# Altium integrated library Maxim Digital Potentiometers.IntLib: 1045 symbols (part 27 of 42)
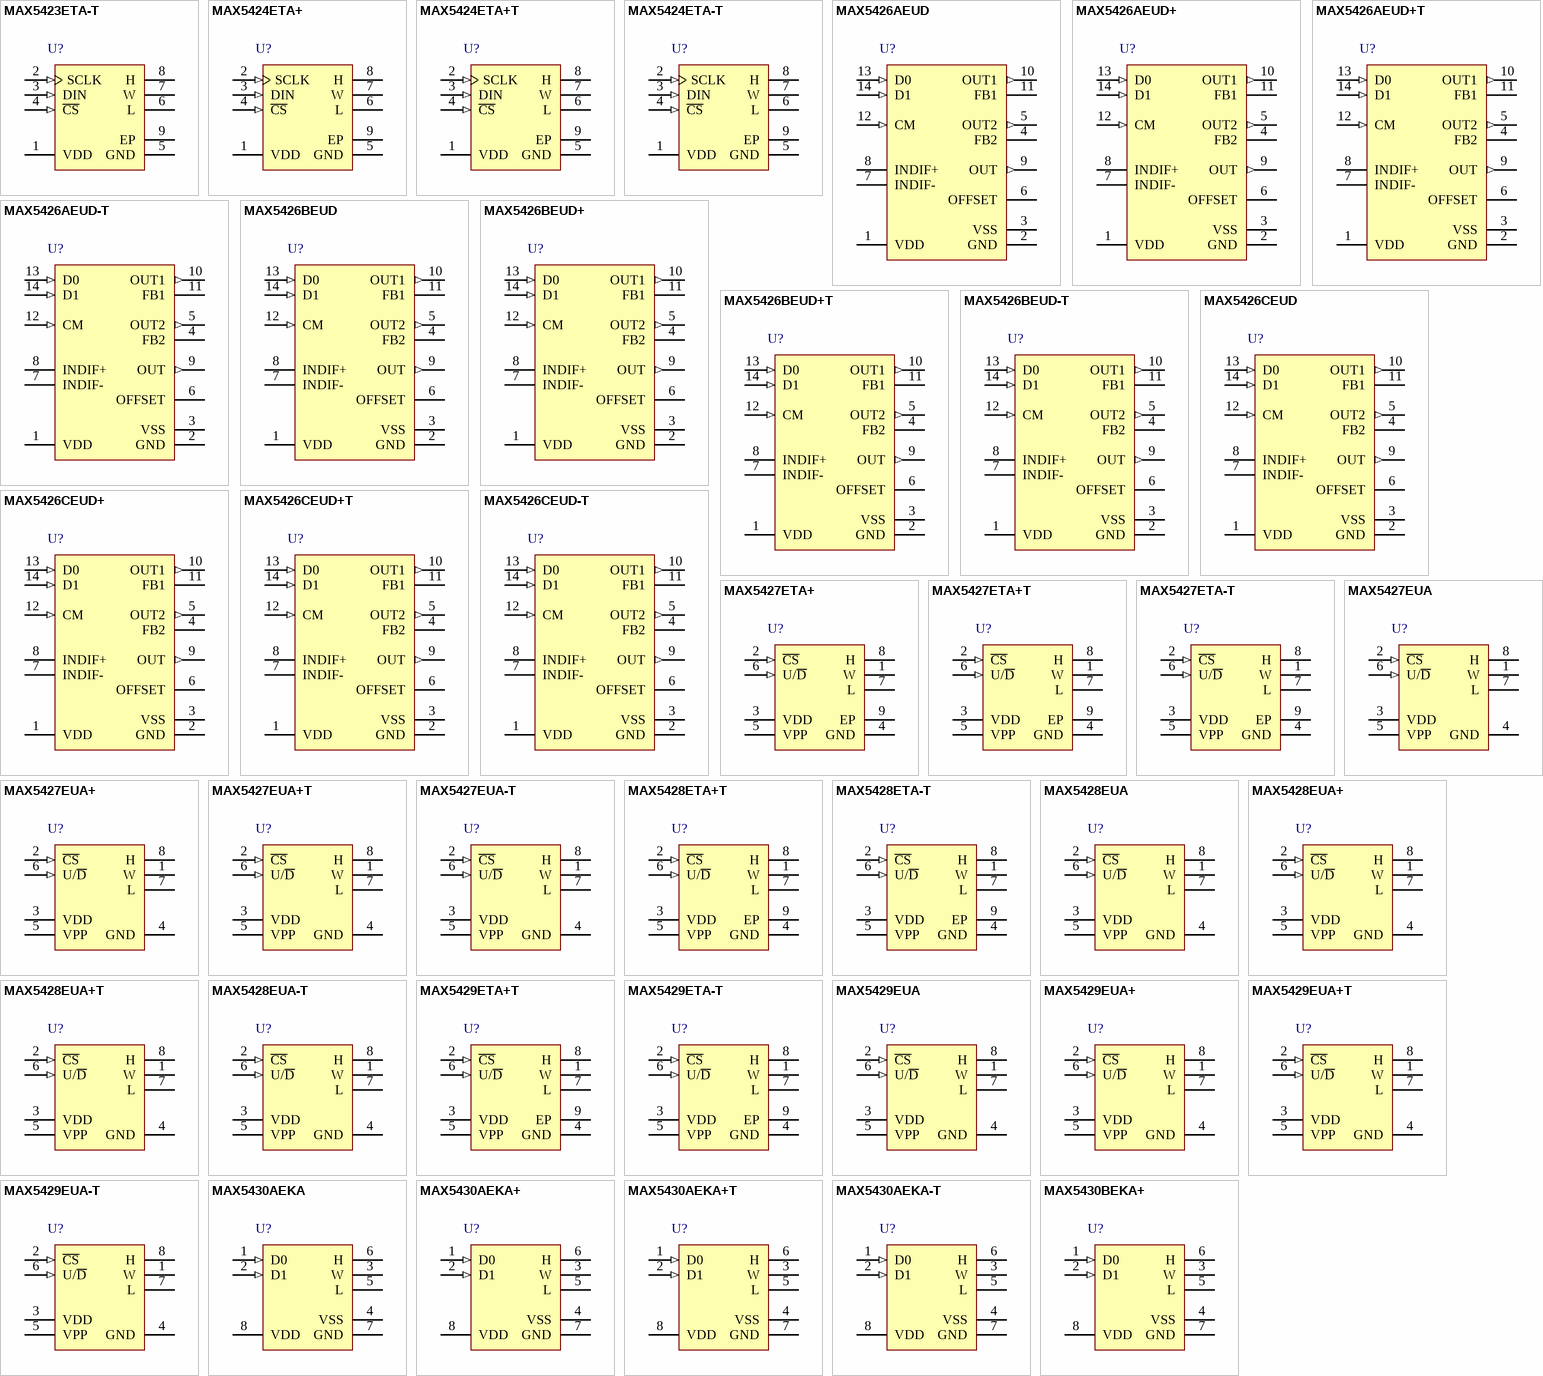
[diagram p55: symbols MAX5423ETA-T to MAX5430BEKA+]

## MAX5427EUA
designator U?
100k Digital Potentiometer with Up/Down Control Interface, Non-Volatile OTP, Linear Taper, 32 Steps, -40 to 85 degC, 8-pin uMAX (U8-1); PartNumber: MAX5427EUA; DatasheetVersion: Rev. 2; PackageVersion: Rev. L, 08/2009; PackageReference: U8-1; PackageDescription: 8-Pin Micro-MAX, Thin Shrink Small-Outline (U8-1), Body 3 x 3 mm, Pitch 0.65mm; Supplier 1: Mouser; Supplier Part Number 1: N/A; Control Interface: Up/Down; Features: One Time Programmable; Mounting Technology: Surface Mount; Code_JEDEC: MO-187; ComponentLink1Description: Manufacturer URL; ComponentLink1URL: http://www.maximintegrated.com/; ComponentLink2Description: Datasheet; ComponentLink2URL: http://datasheets.maximintegrated.com/en/ds/MAX5427-MAX5429.pdf; ComponentLink3Description: Package Specification; ComponentLink3URL: http://pdfserv.maximintegrated.com/package_dwgs/21-0036.PDF
footprint MAXM-U8-1_N (SOP, 8-Leads, Body 3x3mm, Pitch 0.65mm, IPC Medium Density)
footprint MAXM-U8-1_L (SOP, 8-Leads, Body 3x3mm, Pitch 0.65mm, IPC High Density)
footprint MAXM-U8-1_M (SOP, 8-Leads, Body 3x3mm, Pitch 0.65mm, IPC Low Density)
pins: 1 W "Wiper Connection", 2 ~{CS} (in) "Chip-Select Input. A high-to-low C\S\ transition determines the mode: increment if U/D\ is high, or decrement if U/D\ is low. C\S\ is also used for one-time programming (see the One-Time Programming section).", 3 VDD (power) "Power-Supply Voltage", 4 GND (power) "Ground", 5 VPP "Programming Voltage for One-Time Programming. Connect VPP to 10V supply when one-time programming the device. For normal operation, connect to ground or let float.", 6 U/~{D} (in) "Up/D\o\w\n\ Control Input. With C\S\ low, a low-to-high transition increments or decrements the wiper position.", 7 L "Low Terminal of Resistor", 8 H "High Terminal of Resistor"

## MAX5427EUA+
designator U?
100k Digital Potentiometer with Up/Down Control Interface, Non-Volatile OTP, Linear Taper, 32 Steps, -40 to 85 degC, 8-pin uMAX (U8+1), Pb-Free; PartNumber: MAX5427EUA+; DatasheetVersion: Rev. 2; PackageVersion: Rev. L, 08/2009; PackageReference: U8+1; PackageDescription: 8-Pin Micro-MAX, Thin Shrink Small-Outline (U8+1), Body 3 x 3 mm, Pitch 0.65 mm; Supplier 1: Digi-Key; Supplier Part Number 1: MAX5427EUA+-ND; Supplier 2: Mouser; Supplier Part Number 2: 700-MAX5427EUA; Control Interface: Up/Down; Features: One Time Programmable; Mounting Technology: Surface Mount; Code_JEDEC: MO-187; ComponentLink1Description: Manufacturer URL; ComponentLink1URL: http://www.maximintegrated.com/; ComponentLink2Description: Datasheet; ComponentLink2URL: http://datasheets.maximintegrated.com/en/ds/MAX5427-MAX5429.pdf; ComponentLink3Description: Package Specification; ComponentLink3URL: http://pdfserv.maximintegrated.com/package_dwgs/21-0036.PDF
footprint MAXM-U8+1_N (SOP, 8-Leads, Body 3x3mm, Pitch 0.65mm, IPC Medium Density)
footprint MAXM-U8+1_L (SOP, 8-Leads, Body 3x3mm, Pitch 0.65mm, IPC High Density)
footprint MAXM-U8+1_M (SOP, 8-Leads, Body 3x3mm, Pitch 0.65mm, IPC Low Density)
pins: 1 W "Wiper Connection", 2 ~{CS} (in) "Chip-Select Input. A high-to-low C\S\ transition determines the mode: increment if U/D\ is high, or decrement if U/D\ is low. C\S\ is also used for one-time programming (see the One-Time Programming section).", 3 VDD (power) "Power-Supply Voltage", 4 GND (power) "Ground", 5 VPP "Programming Voltage for One-Time Programming. Connect VPP to 10V supply when one-time programming the device. For normal operation, connect to ground or let float.", 6 U/~{D} (in) "Up/D\o\w\n\ Control Input. With C\S\ low, a low-to-high transition increments or decrements the wiper position.", 7 L "Low Terminal of Resistor", 8 H "High Terminal of Resistor"

## MAX5427EUA+T
designator U?
100k Digital Potentiometer with Up/Down Control Interface, Non-Volatile OTP, Linear Taper, 32 Steps, -40 to 85 degC, 8-pin uMAX (U8+1), Pb-Free, Tape and Reel; PartNumber: MAX5427EUA+T; DatasheetVersion: Rev. 2; PackageVersion: Rev. L, 08/2009; PackageReference: U8+1; PackageDescription: 8-Pin Micro-MAX, Thin Shrink Small-Outline (U8+1), Body 3 x 3 mm, Pitch 0.65 mm; Supplier 1: Digi-Key; Supplier Part Number 1: MAX5427EUA+T-ND; Supplier 2: Mouser; Supplier Part Number 2: 700-MAX5427EUAT; Control Interface: Up/Down; Features: One Time Programmable; Mounting Technology: Surface Mount; Code_JEDEC: MO-187; ComponentLink1Description: Manufacturer URL; ComponentLink1URL: http://www.maximintegrated.com/; ComponentLink2Description: Datasheet; ComponentLink2URL: http://datasheets.maximintegrated.com/en/ds/MAX5427-MAX5429.pdf; ComponentLink3Description: Package Specification; ComponentLink3URL: http://pdfserv.maximintegrated.com/package_dwgs/21-0036.PDF
footprint MAXM-U8+1_N (SOP, 8-Leads, Body 3x3mm, Pitch 0.65mm, IPC Medium Density)
footprint MAXM-U8+1_L (SOP, 8-Leads, Body 3x3mm, Pitch 0.65mm, IPC High Density)
footprint MAXM-U8+1_M (SOP, 8-Leads, Body 3x3mm, Pitch 0.65mm, IPC Low Density)
pins: 1 W "Wiper Connection", 2 ~{CS} (in) "Chip-Select Input. A high-to-low C\S\ transition determines the mode: increment if U/D\ is high, or decrement if U/D\ is low. C\S\ is also used for one-time programming (see the One-Time Programming section).", 3 VDD (power) "Power-Supply Voltage", 4 GND (power) "Ground", 5 VPP "Programming Voltage for One-Time Programming. Connect VPP to 10V supply when one-time programming the device. For normal operation, connect to ground or let float.", 6 U/~{D} (in) "Up/D\o\w\n\ Control Input. With C\S\ low, a low-to-high transition increments or decrements the wiper position.", 7 L "Low Terminal of Resistor", 8 H "High Terminal of Resistor"

## MAX5427EUA-T
designator U?
100k Digital Potentiometer with Up/Down Control Interface, Non-Volatile OTP, Linear Taper, 32 Steps, -40 to 85 degC, 8-pin uMAX (U8-1), Tape and Reel; PartNumber: MAX5427EUA-T; DatasheetVersion: Rev. 2; PackageVersion: Rev. L, 08/2009; PackageReference: U8-1; PackageDescription: 8-Pin Micro-MAX, Thin Shrink Small-Outline (U8-1), Body 3 x 3 mm, Pitch 0.65mm; Supplier 1: Mouser; Supplier Part Number 1: N/A; Control Interface: Up/Down; Features: One Time Programmable; Mounting Technology: Surface Mount; Code_JEDEC: MO-187; ComponentLink1Description: Manufacturer URL; ComponentLink1URL: http://www.maximintegrated.com/; ComponentLink2Description: Datasheet; ComponentLink2URL: http://datasheets.maximintegrated.com/en/ds/MAX5427-MAX5429.pdf; ComponentLink3Description: Package Specification; ComponentLink3URL: http://pdfserv.maximintegrated.com/package_dwgs/21-0036.PDF
footprint MAXM-U8-1_N (SOP, 8-Leads, Body 3x3mm, Pitch 0.65mm, IPC Medium Density)
footprint MAXM-U8-1_L (SOP, 8-Leads, Body 3x3mm, Pitch 0.65mm, IPC High Density)
footprint MAXM-U8-1_M (SOP, 8-Leads, Body 3x3mm, Pitch 0.65mm, IPC Low Density)
pins: 1 W "Wiper Connection", 2 ~{CS} (in) "Chip-Select Input. A high-to-low C\S\ transition determines the mode: increment if U/D\ is high, or decrement if U/D\ is low. C\S\ is also used for one-time programming (see the One-Time Programming section).", 3 VDD (power) "Power-Supply Voltage", 4 GND (power) "Ground", 5 VPP "Programming Voltage for One-Time Programming. Connect VPP to 10V supply when one-time programming the device. For normal operation, connect to ground or let float.", 6 U/~{D} (in) "Up/D\o\w\n\ Control Input. With C\S\ low, a low-to-high transition increments or decrements the wiper position.", 7 L "Low Terminal of Resistor", 8 H "High Terminal of Resistor"

## MAX5428ETA+T
designator U?
50k Digital Potentiometer with Up/Down Control Interface, Non-Volatile OTP, Linear Taper, 32 Steps, -40 to 85 degC, 8-pin TDFN-EP (T833+2), Pb-Free, Tape and Reel; PartNumber: MAX5428ETA+T; DatasheetVersion: Rev. 2; PackageVersion: Rev. J, 08/2009; PackageReference: T833+2; PackageDescription: 8-Pin Plastic Very Very Thin Dual Flatpack No Leads, Exposed Pad (T833+2); Supplier 1: Digi-Key; Supplier Part Number 1: MAX5428ETA+T-ND; Supplier 2: Mouser; Supplier Part Number 2: 700-MAX5428ETAT; Control Interface: Up/Down; Features: One Time Programmable; Mounting Technology: Surface Mount; Code_JEDEC: MO229; ComponentLink1Description: Manufacturer URL; ComponentLink1URL: http://www.maximintegrated.com/; ComponentLink2Description: Datasheet; ComponentLink2URL: http://datasheets.maximintegrated.com/en/ds/MAX5427-MAX5429.pdf; ComponentLink3Description: Package Specification; ComponentLink3URL: http://pdfserv.maximintegrated.com/package_dwgs/21-0137.PDF
footprint MAXM-T833+2_V (SON, 8-Leads, Body 3x3 mm, Pitch 0.65mm, Thermal Pad 2.3x1.5mm)
pins: 1 W "Wiper Connection", 2 ~{CS} (in) "Chip-Select Input. A high-to-low C\S\ transition determines the mode: increment if U/D\ is high, or decrement if U/D\ is low. C\S\ is also used for one-time programming (see the One-Time Programming section).", 3 VDD (power) "Power-Supply Voltage", 4 GND (power) "Ground", 5 VPP "Programming Voltage for One-Time Programming. Connect VPP to 10V supply when one-time programming the device. For normal operation, connect to ground or let float.", 6 U/~{D} (in) "Up/D\o\w\n\ Control Input. With C\S\ low, a low-to-high transition increments or decrements the wiper position.", 7 L "Low Terminal of Resistor", 8 H "High Terminal of Resistor", 9 EP (power) "Exposed paddle"

## MAX5428ETA-T
designator U?
50k Digital Potentiometer with Up/Down Control Interface, Non-Volatile OTP, Linear Taper, 32 Steps, -40 to 85 degC, 8-pin TDFN-EP (T833-2), Tape and Reel; PartNumber: MAX5428ETA-T; DatasheetVersion: Rev. 2; PackageVersion: Rev. J, 08/2009; PackageReference: T833-2; PackageDescription: 8-Pin Plastic Very Very Thin Dual Flatpack No Leads, Exposed Pad, Body 3 x 3 mm, Pitch 0.65 mm; Supplier 1: Mouser; Supplier Part Number 1: N/A; Control Interface: Up/Down; Features: One Time Programmable; Mounting Technology: Surface Mount; Code_JEDEC: MO229; ComponentLink1Description: Manufacturer URL; ComponentLink1URL: http://www.maximintegrated.com/; ComponentLink2Description: Datasheet; ComponentLink2URL: http://datasheets.maximintegrated.com/en/ds/MAX5427-MAX5429.pdf; ComponentLink3Description: Package Specification; ComponentLink3URL: http://pdfserv.maximintegrated.com/package_dwgs/21-0137.PDF
footprint MAXM-T833-2_V (SON, 8-Leads, Body 3x3mm, Pitch 0.65mm, Thermal Pad 2.3x1.5mm, Recommended)
pins: 1 W "Wiper Connection", 2 ~{CS} (in) "Chip-Select Input. A high-to-low C\S\ transition determines the mode: increment if U/D\ is high, or decrement if U/D\ is low. C\S\ is also used for one-time programming (see the One-Time Programming section).", 3 VDD (power) "Power-Supply Voltage", 4 GND (power) "Ground", 5 VPP "Programming Voltage for One-Time Programming. Connect VPP to 10V supply when one-time programming the device. For normal operation, connect to ground or let float.", 6 U/~{D} (in) "Up/D\o\w\n\ Control Input. With C\S\ low, a low-to-high transition increments or decrements the wiper position.", 7 L "Low Terminal of Resistor", 8 H "High Terminal of Resistor", 9 EP (power) "Exposed paddle"

## MAX5428EUA
designator U?
50k Digital Potentiometer with Up/Down Control Interface, Non-Volatile OTP, Linear Taper, 32 Steps, -40 to 85 degC, 8-pin uMAX (U8-1); PartNumber: MAX5428EUA; DatasheetVersion: Rev. 2; PackageVersion: Rev. L, 08/2009; PackageReference: U8-1; PackageDescription: 8-Pin Micro-MAX, Thin Shrink Small-Outline (U8-1), Body 3 x 3 mm, Pitch 0.65mm; Supplier 1: Mouser; Supplier Part Number 1: N/A; Control Interface: Up/Down; Features: One Time Programmable; Mounting Technology: Surface Mount; Code_JEDEC: MO-187; ComponentLink1Description: Manufacturer URL; ComponentLink1URL: http://www.maximintegrated.com/; ComponentLink2Description: Datasheet; ComponentLink2URL: http://datasheets.maximintegrated.com/en/ds/MAX5427-MAX5429.pdf; ComponentLink3Description: Package Specification; ComponentLink3URL: http://pdfserv.maximintegrated.com/package_dwgs/21-0036.PDF
footprint MAXM-U8-1_N (SOP, 8-Leads, Body 3x3mm, Pitch 0.65mm, IPC Medium Density)
footprint MAXM-U8-1_L (SOP, 8-Leads, Body 3x3mm, Pitch 0.65mm, IPC High Density)
footprint MAXM-U8-1_M (SOP, 8-Leads, Body 3x3mm, Pitch 0.65mm, IPC Low Density)
pins: 1 W "Wiper Connection", 2 ~{CS} (in) "Chip-Select Input. A high-to-low C\S\ transition determines the mode: increment if U/D\ is high, or decrement if U/D\ is low. C\S\ is also used for one-time programming (see the One-Time Programming section).", 3 VDD (power) "Power-Supply Voltage", 4 GND (power) "Ground", 5 VPP "Programming Voltage for One-Time Programming. Connect VPP to 10V supply when one-time programming the device. For normal operation, connect to ground or let float.", 6 U/~{D} (in) "Up/D\o\w\n\ Control Input. With C\S\ low, a low-to-high transition increments or decrements the wiper position.", 7 L "Low Terminal of Resistor", 8 H "High Terminal of Resistor"

## MAX5428EUA+
designator U?
50k Digital Potentiometer with Up/Down Control Interface, Non-Volatile OTP, Linear Taper, 32 Steps, -40 to 85 degC, 8-pin uMAX (U8+1), Pb-Free; PartNumber: MAX5428EUA+; DatasheetVersion: Rev. 2; PackageVersion: Rev. L, 08/2009; PackageReference: U8+1; PackageDescription: 8-Pin Micro-MAX, Thin Shrink Small-Outline (U8+1), Body 3 x 3 mm, Pitch 0.65 mm; Supplier 1: Digi-Key; Supplier Part Number 1: MAX5428EUA+-ND; Supplier 2: Farnell; Supplier Part Number 2: 1714908; Supplier 3: Newark; Supplier Part Number 3: 23K6184; Supplier 4: Mouser; Supplier Part Number 4: 700-MAX5428EUA; Control Interface: Up/Down; Features: One Time Programmable; Mounting Technology: Surface Mount; Code_JEDEC: MO-187; ComponentLink1Description: Manufacturer URL; ComponentLink1URL: http://www.maximintegrated.com/; ComponentLink2Description: Datasheet; ComponentLink2URL: http://datasheets.maximintegrated.com/en/ds/MAX5427-MAX5429.pdf; ComponentLink3Description: Package Specification; ComponentLink3URL: http://pdfserv.maximintegrated.com/package_dwgs/21-0036.PDF
footprint MAXM-U8+1_N (SOP, 8-Leads, Body 3x3mm, Pitch 0.65mm, IPC Medium Density)
footprint MAXM-U8+1_L (SOP, 8-Leads, Body 3x3mm, Pitch 0.65mm, IPC High Density)
footprint MAXM-U8+1_M (SOP, 8-Leads, Body 3x3mm, Pitch 0.65mm, IPC Low Density)
pins: 1 W "Wiper Connection", 2 ~{CS} (in) "Chip-Select Input. A high-to-low C\S\ transition determines the mode: increment if U/D\ is high, or decrement if U/D\ is low. C\S\ is also used for one-time programming (see the One-Time Programming section).", 3 VDD (power) "Power-Supply Voltage", 4 GND (power) "Ground", 5 VPP "Programming Voltage for One-Time Programming. Connect VPP to 10V supply when one-time programming the device. For normal operation, connect to ground or let float.", 6 U/~{D} (in) "Up/D\o\w\n\ Control Input. With C\S\ low, a low-to-high transition increments or decrements the wiper position.", 7 L "Low Terminal of Resistor", 8 H "High Terminal of Resistor"

## MAX5428EUA+T
designator U?
50k Digital Potentiometer with Up/Down Control Interface, Non-Volatile OTP, Linear Taper, 32 Steps, -40 to 85 degC, 8-pin uMAX (U8+1), Pb-Free, Tape and Reel; PartNumber: MAX5428EUA+T; DatasheetVersion: Rev. 2; PackageVersion: Rev. L, 08/2009; PackageReference: U8+1; PackageDescription: 8-Pin Micro-MAX, Thin Shrink Small-Outline (U8+1), Body 3 x 3 mm, Pitch 0.65 mm; Supplier 1: Digi-Key; Supplier Part Number 1: MAX5428EUA+T-ND; Supplier 2: Mouser; Supplier Part Number 2: 700-MAX5428EUAT; Control Interface: Up/Down; Features: One Time Programmable; Mounting Technology: Surface Mount; Code_JEDEC: MO-187; ComponentLink1Description: Manufacturer URL; ComponentLink1URL: http://www.maximintegrated.com/; ComponentLink2Description: Datasheet; ComponentLink2URL: http://datasheets.maximintegrated.com/en/ds/MAX5427-MAX5429.pdf; ComponentLink3Description: Package Specification; ComponentLink3URL: http://pdfserv.maximintegrated.com/package_dwgs/21-0036.PDF
footprint MAXM-U8+1_N (SOP, 8-Leads, Body 3x3mm, Pitch 0.65mm, IPC Medium Density)
footprint MAXM-U8+1_L (SOP, 8-Leads, Body 3x3mm, Pitch 0.65mm, IPC High Density)
footprint MAXM-U8+1_M (SOP, 8-Leads, Body 3x3mm, Pitch 0.65mm, IPC Low Density)
pins: 1 W "Wiper Connection", 2 ~{CS} (in) "Chip-Select Input. A high-to-low C\S\ transition determines the mode: increment if U/D\ is high, or decrement if U/D\ is low. C\S\ is also used for one-time programming (see the One-Time Programming section).", 3 VDD (power) "Power-Supply Voltage", 4 GND (power) "Ground", 5 VPP "Programming Voltage for One-Time Programming. Connect VPP to 10V supply when one-time programming the device. For normal operation, connect to ground or let float.", 6 U/~{D} (in) "Up/D\o\w\n\ Control Input. With C\S\ low, a low-to-high transition increments or decrements the wiper position.", 7 L "Low Terminal of Resistor", 8 H "High Terminal of Resistor"

## MAX5428EUA-T
designator U?
50k Digital Potentiometer with Up/Down Control Interface, Non-Volatile OTP, Linear Taper, 32 Steps, -40 to 85 degC, 8-pin uMAX (U8-1), Tape and Reel; PartNumber: MAX5428EUA-T; DatasheetVersion: Rev. 2; PackageVersion: Rev. L, 08/2009; PackageReference: U8-1; PackageDescription: 8-Pin Micro-MAX, Thin Shrink Small-Outline (U8-1), Body 3 x 3 mm, Pitch 0.65mm; Supplier 1: Mouser; Supplier Part Number 1: N/A; Control Interface: Up/Down; Features: One Time Programmable; Mounting Technology: Surface Mount; Code_JEDEC: MO-187; ComponentLink1Description: Manufacturer URL; ComponentLink1URL: http://www.maximintegrated.com/; ComponentLink2Description: Datasheet; ComponentLink2URL: http://datasheets.maximintegrated.com/en/ds/MAX5427-MAX5429.pdf; ComponentLink3Description: Package Specification; ComponentLink3URL: http://pdfserv.maximintegrated.com/package_dwgs/21-0036.PDF
footprint MAXM-U8-1_N (SOP, 8-Leads, Body 3x3mm, Pitch 0.65mm, IPC Medium Density)
footprint MAXM-U8-1_L (SOP, 8-Leads, Body 3x3mm, Pitch 0.65mm, IPC High Density)
footprint MAXM-U8-1_M (SOP, 8-Leads, Body 3x3mm, Pitch 0.65mm, IPC Low Density)
pins: 1 W "Wiper Connection", 2 ~{CS} (in) "Chip-Select Input. A high-to-low C\S\ transition determines the mode: increment if U/D\ is high, or decrement if U/D\ is low. C\S\ is also used for one-time programming (see the One-Time Programming section).", 3 VDD (power) "Power-Supply Voltage", 4 GND (power) "Ground", 5 VPP "Programming Voltage for One-Time Programming. Connect VPP to 10V supply when one-time programming the device. For normal operation, connect to ground or let float.", 6 U/~{D} (in) "Up/D\o\w\n\ Control Input. With C\S\ low, a low-to-high transition increments or decrements the wiper position.", 7 L "Low Terminal of Resistor", 8 H "High Terminal of Resistor"

## MAX5429ETA+T
designator U?
10k Digital Potentiometer with Up/Down Control Interface, Non-Volatile OTP, Linear Taper, 32 Steps, -40 to 85 degC, 8-pin TDFN-EP (T833+2), Pb-Free, Tape and Reel; PartNumber: MAX5429ETA+T; DatasheetVersion: Rev. 2; PackageVersion: Rev. J, 08/2009; PackageReference: T833+2; PackageDescription: 8-Pin Plastic Very Very Thin Dual Flatpack No Leads, Exposed Pad (T833+2); Supplier 1: Digi-Key; Supplier Part Number 1: MAX5429ETA+T-ND; Supplier 2: Mouser; Supplier Part Number 2: 700-MAX5429ETAT; Control Interface: Up/Down; Features: One Time Programmable; Mounting Technology: Surface Mount; Code_JEDEC: MO229; ComponentLink1Description: Manufacturer URL; ComponentLink1URL: http://www.maximintegrated.com/; ComponentLink2Description: Datasheet; ComponentLink2URL: http://datasheets.maximintegrated.com/en/ds/MAX5427-MAX5429.pdf; ComponentLink3Description: Package Specification; ComponentLink3URL: http://pdfserv.maximintegrated.com/package_dwgs/21-0137.PDF
footprint MAXM-T833+2_V (SON, 8-Leads, Body 3x3 mm, Pitch 0.65mm, Thermal Pad 2.3x1.5mm)
pins: 1 W "Wiper Connection", 2 ~{CS} (in) "Chip-Select Input. A high-to-low C\S\ transition determines the mode: increment if U/D\ is high, or decrement if U/D\ is low. C\S\ is also used for one-time programming (see the One-Time Programming section).", 3 VDD (power) "Power-Supply Voltage", 4 GND (power) "Ground", 5 VPP "Programming Voltage for One-Time Programming. Connect VPP to 10V supply when one-time programming the device. For normal operation, connect to ground or let float.", 6 U/~{D} (in) "Up/D\o\w\n\ Control Input. With C\S\ low, a low-to-high transition increments or decrements the wiper position.", 7 L "Low Terminal of Resistor", 8 H "High Terminal of Resistor", 9 EP (power) "Exposed paddle"

## MAX5429ETA-T
designator U?
10k Digital Potentiometer with Up/Down Control Interface, Non-Volatile OTP, Linear Taper, 32 Steps, -40 to 85 degC, 8-pin TDFN-EP (T833-2), Tape and Reel; PartNumber: MAX5429ETA-T; DatasheetVersion: Rev. 2; PackageVersion: Rev. J, 08/2009; PackageReference: T833-2; PackageDescription: 8-Pin Plastic Very Very Thin Dual Flatpack No Leads, Exposed Pad, Body 3 x 3 mm, Pitch 0.65 mm; Supplier 1: Mouser; Supplier Part Number 1: N/A; Control Interface: Up/Down; Features: One Time Programmable; Mounting Technology: Surface Mount; Code_JEDEC: MO229; ComponentLink1Description: Manufacturer URL; ComponentLink1URL: http://www.maximintegrated.com/; ComponentLink2Description: Datasheet; ComponentLink2URL: http://datasheets.maximintegrated.com/en/ds/MAX5427-MAX5429.pdf; ComponentLink3Description: Package Specification; ComponentLink3URL: http://pdfserv.maximintegrated.com/package_dwgs/21-0137.PDF
footprint MAXM-T833-2_V (SON, 8-Leads, Body 3x3mm, Pitch 0.65mm, Thermal Pad 2.3x1.5mm, Recommended)
pins: 1 W "Wiper Connection", 2 ~{CS} (in) "Chip-Select Input. A high-to-low C\S\ transition determines the mode: increment if U/D\ is high, or decrement if U/D\ is low. C\S\ is also used for one-time programming (see the One-Time Programming section).", 3 VDD (power) "Power-Supply Voltage", 4 GND (power) "Ground", 5 VPP "Programming Voltage for One-Time Programming. Connect VPP to 10V supply when one-time programming the device. For normal operation, connect to ground or let float.", 6 U/~{D} (in) "Up/D\o\w\n\ Control Input. With C\S\ low, a low-to-high transition increments or decrements the wiper position.", 7 L "Low Terminal of Resistor", 8 H "High Terminal of Resistor", 9 EP (power) "Exposed paddle"

## MAX5429EUA
designator U?
10k Digital Potentiometer with Up/Down Control Interface, Non-Volatile OTP, Linear Taper, 32 Steps, -40 to 85 degC, 8-pin uMAX (U8-1); PartNumber: MAX5429EUA; DatasheetVersion: Rev. 2; PackageVersion: Rev. L, 08/2009; PackageReference: U8-1; PackageDescription: 8-Pin Micro-MAX, Thin Shrink Small-Outline (U8-1), Body 3 x 3 mm, Pitch 0.65mm; Supplier 1: Digi-Key; Supplier Part Number 1: MAX5429EUA-ND; Supplier 2: Mouser; Supplier Part Number 2: N/A; Control Interface: Up/Down; Features: One Time Programmable; Mounting Technology: Surface Mount; Code_JEDEC: MO-187; ComponentLink1Description: Manufacturer URL; ComponentLink1URL: http://www.maximintegrated.com/; ComponentLink2Description: Datasheet; ComponentLink2URL: http://datasheets.maximintegrated.com/en/ds/MAX5427-MAX5429.pdf; ComponentLink3Description: Package Specification; ComponentLink3URL: http://pdfserv.maximintegrated.com/package_dwgs/21-0036.PDF
footprint MAXM-U8-1_N (SOP, 8-Leads, Body 3x3mm, Pitch 0.65mm, IPC Medium Density)
footprint MAXM-U8-1_L (SOP, 8-Leads, Body 3x3mm, Pitch 0.65mm, IPC High Density)
footprint MAXM-U8-1_M (SOP, 8-Leads, Body 3x3mm, Pitch 0.65mm, IPC Low Density)
pins: 1 W "Wiper Connection", 2 ~{CS} (in) "Chip-Select Input. A high-to-low C\S\ transition determines the mode: increment if U/D\ is high, or decrement if U/D\ is low. C\S\ is also used for one-time programming (see the One-Time Programming section).", 3 VDD (power) "Power-Supply Voltage", 4 GND (power) "Ground", 5 VPP "Programming Voltage for One-Time Programming. Connect VPP to 10V supply when one-time programming the device. For normal operation, connect to ground or let float.", 6 U/~{D} (in) "Up/D\o\w\n\ Control Input. With C\S\ low, a low-to-high transition increments or decrements the wiper position.", 7 L "Low Terminal of Resistor", 8 H "High Terminal of Resistor"

## MAX5429EUA+
designator U?
10k Digital Potentiometer with Up/Down Control Interface, Non-Volatile OTP, Linear Taper, 32 Steps, -40 to 85 degC, 8-pin uMAX (U8+1), Pb-Free; PartNumber: MAX5429EUA+; DatasheetVersion: Rev. 2; PackageVersion: Rev. L, 08/2009; PackageReference: U8+1; PackageDescription: 8-Pin Micro-MAX, Thin Shrink Small-Outline (U8+1), Body 3 x 3 mm, Pitch 0.65 mm; Supplier 1: Digi-Key; Supplier Part Number 1: MAX5429EUA+-ND; Supplier 2: Farnell; Supplier Part Number 2: 1714911; Supplier 3: Newark; Supplier Part Number 3: 23K6185; Supplier 4: Mouser; Supplier Part Number 4: 700-MAX5429EUA; Control Interface: Up/Down; Features: One Time Programmable; Mounting Technology: Surface Mount; Code_JEDEC: MO-187; ComponentLink1Description: Manufacturer URL; ComponentLink1URL: http://www.maximintegrated.com/; ComponentLink2Description: Datasheet; ComponentLink2URL: http://datasheets.maximintegrated.com/en/ds/MAX5427-MAX5429.pdf; ComponentLink3Description: Package Specification; ComponentLink3URL: http://pdfserv.maximintegrated.com/package_dwgs/21-0036.PDF
footprint MAXM-U8+1_N (SOP, 8-Leads, Body 3x3mm, Pitch 0.65mm, IPC Medium Density)
footprint MAXM-U8+1_L (SOP, 8-Leads, Body 3x3mm, Pitch 0.65mm, IPC High Density)
footprint MAXM-U8+1_M (SOP, 8-Leads, Body 3x3mm, Pitch 0.65mm, IPC Low Density)
pins: 1 W "Wiper Connection", 2 ~{CS} (in) "Chip-Select Input. A high-to-low C\S\ transition determines the mode: increment if U/D\ is high, or decrement if U/D\ is low. C\S\ is also used for one-time programming (see the One-Time Programming section).", 3 VDD (power) "Power-Supply Voltage", 4 GND (power) "Ground", 5 VPP "Programming Voltage for One-Time Programming. Connect VPP to 10V supply when one-time programming the device. For normal operation, connect to ground or let float.", 6 U/~{D} (in) "Up/D\o\w\n\ Control Input. With C\S\ low, a low-to-high transition increments or decrements the wiper position.", 7 L "Low Terminal of Resistor", 8 H "High Terminal of Resistor"

## MAX5429EUA+T
designator U?
10k Digital Potentiometer with Up/Down Control Interface, Non-Volatile OTP, Linear Taper, 32 Steps, -40 to 85 degC, 8-pin uMAX (U8+1), Pb-Free, Tape and Reel; PartNumber: MAX5429EUA+T; DatasheetVersion: Rev. 2; PackageVersion: Rev. L, 08/2009; PackageReference: U8+1; PackageDescription: 8-Pin Micro-MAX, Thin Shrink Small-Outline (U8+1), Body 3 x 3 mm, Pitch 0.65 mm; Supplier 1: Digi-Key; Supplier Part Number 1: MAX5429EUA+T-ND; Supplier 2: Mouser; Supplier Part Number 2: 700-MAX5429EUAT; Control Interface: Up/Down; Features: One Time Programmable; Mounting Technology: Surface Mount; Code_JEDEC: MO-187; ComponentLink1Description: Manufacturer URL; ComponentLink1URL: http://www.maximintegrated.com/; ComponentLink2Description: Datasheet; ComponentLink2URL: http://datasheets.maximintegrated.com/en/ds/MAX5427-MAX5429.pdf; ComponentLink3Description: Package Specification; ComponentLink3URL: http://pdfserv.maximintegrated.com/package_dwgs/21-0036.PDF
footprint MAXM-U8+1_N (SOP, 8-Leads, Body 3x3mm, Pitch 0.65mm, IPC Medium Density)
footprint MAXM-U8+1_L (SOP, 8-Leads, Body 3x3mm, Pitch 0.65mm, IPC High Density)
footprint MAXM-U8+1_M (SOP, 8-Leads, Body 3x3mm, Pitch 0.65mm, IPC Low Density)
pins: 1 W "Wiper Connection", 2 ~{CS} (in) "Chip-Select Input. A high-to-low C\S\ transition determines the mode: increment if U/D\ is high, or decrement if U/D\ is low. C\S\ is also used for one-time programming (see the One-Time Programming section).", 3 VDD (power) "Power-Supply Voltage", 4 GND (power) "Ground", 5 VPP "Programming Voltage for One-Time Programming. Connect VPP to 10V supply when one-time programming the device. For normal operation, connect to ground or let float.", 6 U/~{D} (in) "Up/D\o\w\n\ Control Input. With C\S\ low, a low-to-high transition increments or decrements the wiper position.", 7 L "Low Terminal of Resistor", 8 H "High Terminal of Resistor"

## MAX5429EUA-T
designator U?
10k Digital Potentiometer with Up/Down Control Interface, Non-Volatile OTP, Linear Taper, 32 Steps, -40 to 85 degC, 8-pin uMAX (U8-1), Tape and Reel; PartNumber: MAX5429EUA-T; DatasheetVersion: Rev. 2; PackageVersion: Rev. L, 08/2009; PackageReference: U8-1; PackageDescription: 8-Pin Micro-MAX, Thin Shrink Small-Outline (U8-1), Body 3 x 3 mm, Pitch 0.65mm; Supplier 1: Mouser; Supplier Part Number 1: N/A; Control Interface: Up/Down; Features: One Time Programmable; Mounting Technology: Surface Mount; Code_JEDEC: MO-187; ComponentLink1Description: Manufacturer URL; ComponentLink1URL: http://www.maximintegrated.com/; ComponentLink2Description: Datasheet; ComponentLink2URL: http://datasheets.maximintegrated.com/en/ds/MAX5427-MAX5429.pdf; ComponentLink3Description: Package Specification; ComponentLink3URL: http://pdfserv.maximintegrated.com/package_dwgs/21-0036.PDF
footprint MAXM-U8-1_N (SOP, 8-Leads, Body 3x3mm, Pitch 0.65mm, IPC Medium Density)
footprint MAXM-U8-1_L (SOP, 8-Leads, Body 3x3mm, Pitch 0.65mm, IPC High Density)
footprint MAXM-U8-1_M (SOP, 8-Leads, Body 3x3mm, Pitch 0.65mm, IPC Low Density)
pins: 1 W "Wiper Connection", 2 ~{CS} (in) "Chip-Select Input. A high-to-low C\S\ transition determines the mode: increment if U/D\ is high, or decrement if U/D\ is low. C\S\ is also used for one-time programming (see the One-Time Programming section).", 3 VDD (power) "Power-Supply Voltage", 4 GND (power) "Ground", 5 VPP "Programming Voltage for One-Time Programming. Connect VPP to 10V supply when one-time programming the device. For normal operation, connect to ground or let float.", 6 U/~{D} (in) "Up/D\o\w\n\ Control Input. With C\S\ low, a low-to-high transition increments or decrements the wiper position.", 7 L "Low Terminal of Resistor", 8 H "High Terminal of Resistor"

## MAX5430AEKA
designator U?
Digitally Programmable Precision Voltage Divider for PGAs with 2-Wire Parallel Control Interface, Volatile, 4 Steps, -40 to 85 degC, 8-pin SOT (K8-5); PartNumber: MAX5430AEKA; DatasheetVersion: Rev. 2; PackageVersion: Rev. J, 10/2009; PackageReference: K8-5; PackageDescription: 8-Pin Small-Outline Transistor Package (K8-5), Body 2.9 x1.625 mm, Pitch 0.65 mm; Supplier 1: Mouser; Supplier Part Number 1: N/A; Applications: Precision Voltage Divider; Control Interface: 2-Wire Parallel; Mounting Technology: Surface Mount; Code_JEDEC: MO178; ComponentLink1Description: Manufacturer URL; ComponentLink1URL: http://www.maximintegrated.com/; ComponentLink2Description: Datasheet; ComponentLink2URL: http://datasheets.maximintegrated.com/en/ds/MAX5430-MAX5431.pdf; ComponentLink3Description: Package Specification; ComponentLink3URL: http://pdfserv.maximintegrated.com/package_dwgs/21-0078.PDF
footprint MAXM-K8-5_V (SOT23, 8-Leads, Body 2.9x1.625mm, Pitch 0.65mm)
pins: 1 D0 (in) "First Bit Digital Input (LSB)", 2 D1 (in) "Second Bit Digital Input (MSB)", 3 W "Wiper Terminal of Resistive-Divider", 4 VSS (power) "Negative Power Supply", 5 L "Low Terminal of Resistive-Divider", 6 H "High Terminal of Resistive-Divider", 7 GND (power) "Ground", 8 VDD (power) "Positive Power Supply"

## MAX5430AEKA+
designator U?
Digitally Programmable Precision Voltage Divider for PGAs with 2-Wire Parallel Control Interface, Volatile, 4 Steps, -40 to 85 degC, 8-pin SOT (K8+5), Pb-Free; PartNumber: MAX5430AEKA+; DatasheetVersion: Rev. 2; PackageVersion: Rev. J, 10/2009; PackageReference: K8+5; PackageDescription: 8-Pin Small-Outline Transistor Package (K8+5), Body 2.9 x 1.625 mm, Pitch 0.65 mm; Supplier 1: Mouser; Supplier Part Number 1: N/A; Applications: Precision Voltage Divider; Control Interface: 2-Wire Parallel; Mounting Technology: Surface Mount; Code_JEDEC: MO178; ComponentLink1Description: Manufacturer URL; ComponentLink1URL: http://www.maximintegrated.com/; ComponentLink2Description: Datasheet; ComponentLink2URL: http://datasheets.maximintegrated.com/en/ds/MAX5430-MAX5431.pdf; ComponentLink3Description: Package Specification; ComponentLink3URL: http://pdfserv.maximintegrated.com/package_dwgs/21-0078.PDF
footprint MAXM-K8+5_V (SOT23, 8-Leads, Body 2.9x1.625mm, Pitch 0.65mm)
pins: 1 D0 (in) "First Bit Digital Input (LSB)", 2 D1 (in) "Second Bit Digital Input (MSB)", 3 W "Wiper Terminal of Resistive-Divider", 4 VSS (power) "Negative Power Supply", 5 L "Low Terminal of Resistive-Divider", 6 H "High Terminal of Resistive-Divider", 7 GND (power) "Ground", 8 VDD (power) "Positive Power Supply"

## MAX5430AEKA+T
designator U?
Digitally Programmable Precision Voltage Divider for PGAs with 2-Wire Parallel Control Interface, Volatile, 4 Steps, -40 to 85 degC, 8-pin SOT (K8+5), Pb-Free, Tape and Reel; PartNumber: MAX5430AEKA+T; DatasheetVersion: Rev. 2; PackageVersion: Rev. J, 10/2009; PackageReference: K8+5; PackageDescription: 8-Pin Small-Outline Transistor Package (K8+5), Body 2.9 x 1.625 mm, Pitch 0.65 mm; Supplier 1: Digi-Key; Supplier Part Number 1: MAX5430AEKA+T-ND; Supplier 2: Mouser; Supplier Part Number 2: 700-MAX5430AEKAT; Applications: Precision Voltage Divider; Control Interface: 2-Wire Parallel; Mounting Technology: Surface Mount; Code_JEDEC: MO178; ComponentLink1Description: Manufacturer URL; ComponentLink1URL: http://www.maximintegrated.com/; ComponentLink2Description: Datasheet; ComponentLink2URL: http://datasheets.maximintegrated.com/en/ds/MAX5430-MAX5431.pdf; ComponentLink3Description: Package Specification; ComponentLink3URL: http://pdfserv.maximintegrated.com/package_dwgs/21-0078.PDF
footprint MAXM-K8+5_V (SOT23, 8-Leads, Body 2.9x1.625mm, Pitch 0.65mm)
pins: 1 D0 (in) "First Bit Digital Input (LSB)", 2 D1 (in) "Second Bit Digital Input (MSB)", 3 W "Wiper Terminal of Resistive-Divider", 4 VSS (power) "Negative Power Supply", 5 L "Low Terminal of Resistive-Divider", 6 H "High Terminal of Resistive-Divider", 7 GND (power) "Ground", 8 VDD (power) "Positive Power Supply"

## MAX5430AEKA-T
designator U?
Digitally Programmable Precision Voltage Divider for PGAs with 2-Wire Parallel Control Interface, Volatile, 4 Steps, -40 to 85 degC, 8-pin SOT (K8-5), Tape and Reel; PartNumber: MAX5430AEKA-T; DatasheetVersion: Rev. 2; PackageVersion: Rev. J, 10/2009; PackageReference: K8-5; PackageDescription: 8-Pin Small-Outline Transistor Package (K8-5), Body 2.9 x1.625 mm, Pitch 0.65 mm; Supplier 1: Mouser; Supplier Part Number 1: N/A; Applications: Precision Voltage Divider; Control Interface: 2-Wire Parallel; Mounting Technology: Surface Mount; Code_JEDEC: MO178; ComponentLink1Description: Manufacturer URL; ComponentLink1URL: http://www.maximintegrated.com/; ComponentLink2Description: Datasheet; ComponentLink2URL: http://datasheets.maximintegrated.com/en/ds/MAX5430-MAX5431.pdf; ComponentLink3Description: Package Specification; ComponentLink3URL: http://pdfserv.maximintegrated.com/package_dwgs/21-0078.PDF
footprint MAXM-K8-5_V (SOT23, 8-Leads, Body 2.9x1.625mm, Pitch 0.65mm)
pins: 1 D0 (in) "First Bit Digital Input (LSB)", 2 D1 (in) "Second Bit Digital Input (MSB)", 3 W "Wiper Terminal of Resistive-Divider", 4 VSS (power) "Negative Power Supply", 5 L "Low Terminal of Resistive-Divider", 6 H "High Terminal of Resistive-Divider", 7 GND (power) "Ground", 8 VDD (power) "Positive Power Supply"

## MAX5430BEKA+
designator U?
Digitally Programmable Precision Voltage Divider for PGAs with 2-Wire Parallel Control Interface, Volatile, 4 Steps, -40 to 85 degC, 8-pin SOT (K8+5), Pb-Free; PartNumber: MAX5430BEKA+; DatasheetVersion: Rev. 2; PackageVersion: Rev. J, 10/2009; PackageReference: K8+5; PackageDescription: 8-Pin Small-Outline Transistor Package (K8+5), Body 2.9 x 1.625 mm, Pitch 0.65 mm; Supplier 1: Mouser; Supplier Part Number 1: N/A; Applications: Precision Voltage Divider; Control Interface: 2-Wire Parallel; Mounting Technology: Surface Mount; Code_JEDEC: MO178; ComponentLink1Description: Manufacturer URL; ComponentLink1URL: http://www.maximintegrated.com/; ComponentLink2Description: Datasheet; ComponentLink2URL: http://datasheets.maximintegrated.com/en/ds/MAX5430-MAX5431.pdf; ComponentLink3Description: Package Specification; ComponentLink3URL: http://pdfserv.maximintegrated.com/package_dwgs/21-0078.PDF
footprint MAXM-K8+5_V (SOT23, 8-Leads, Body 2.9x1.625mm, Pitch 0.65mm)
pins: 1 D0 (in) "First Bit Digital Input (LSB)", 2 D1 (in) "Second Bit Digital Input (MSB)", 3 W "Wiper Terminal of Resistive-Divider", 4 VSS (power) "Negative Power Supply", 5 L "Low Terminal of Resistive-Divider", 6 H "High Terminal of Resistive-Divider", 7 GND (power) "Ground", 8 VDD (power) "Positive Power Supply"

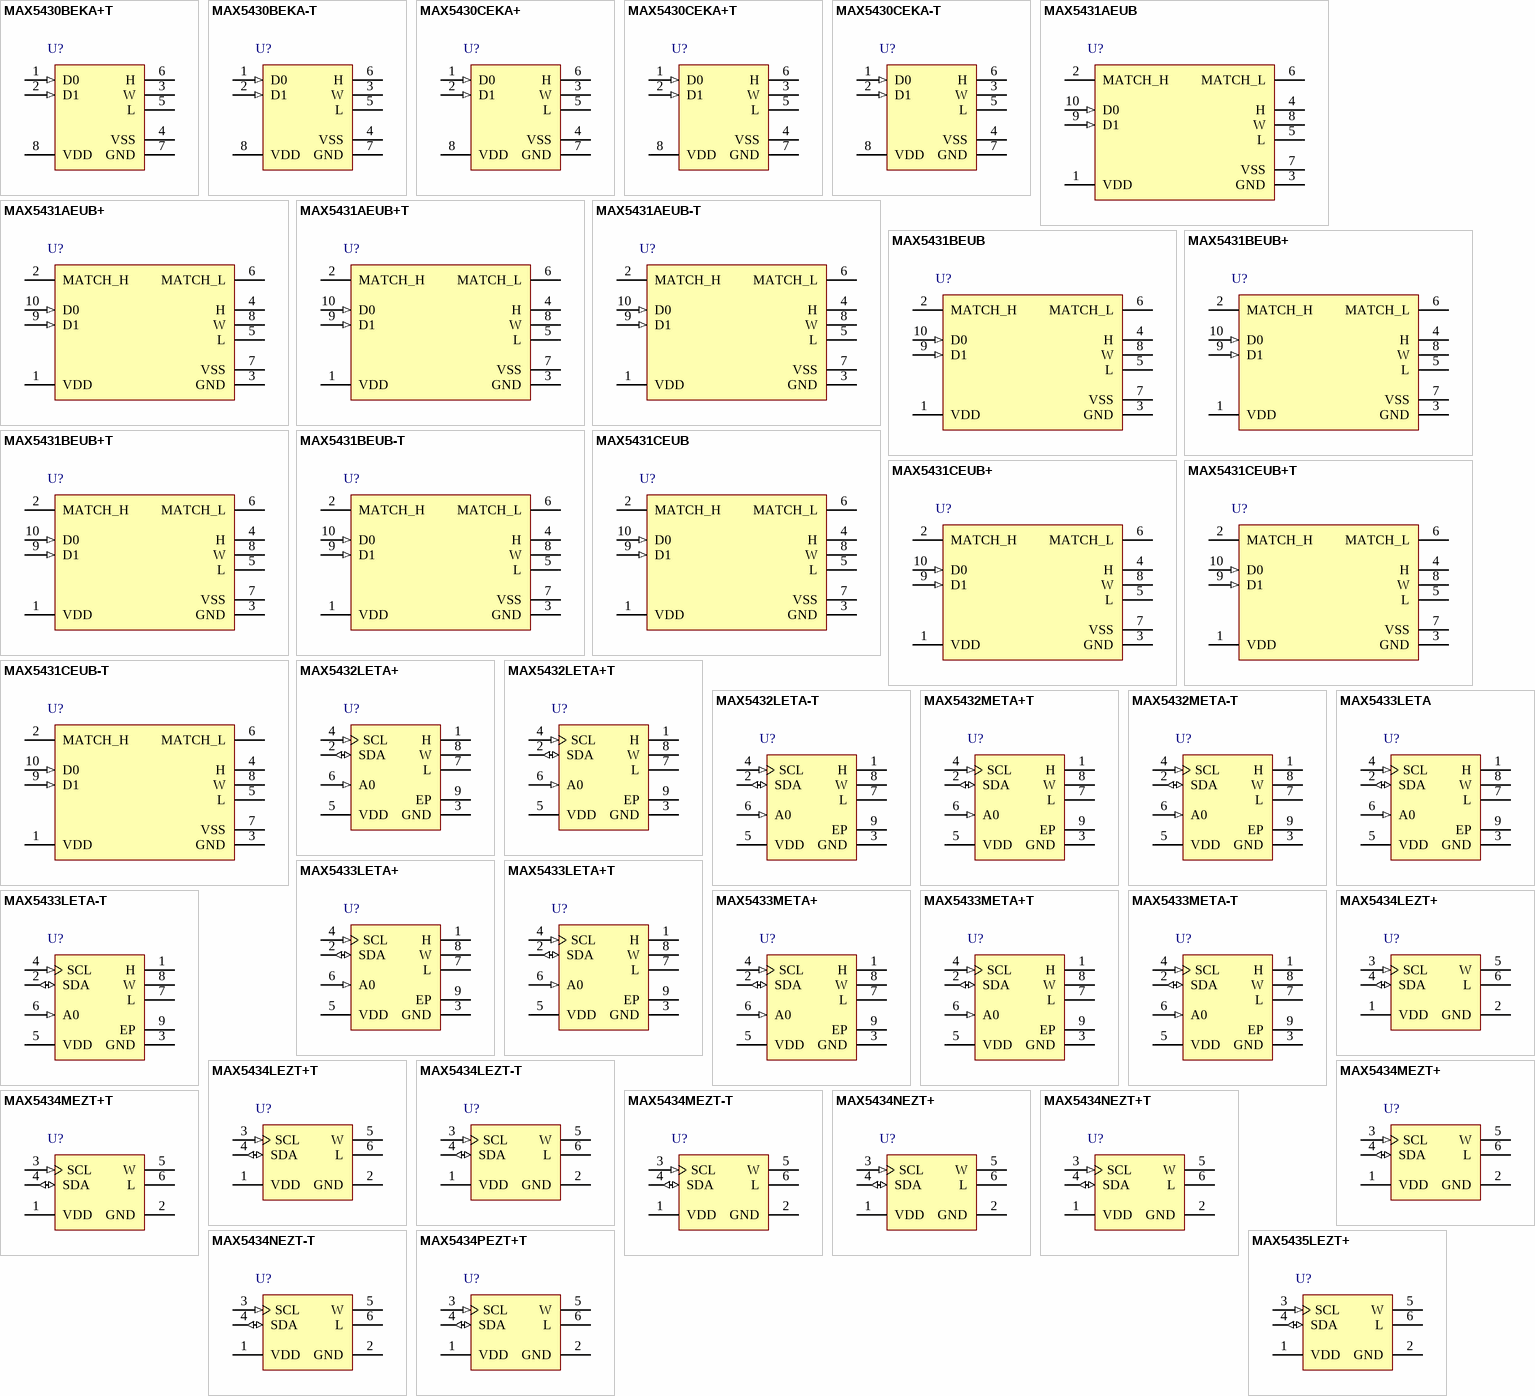
[diagram p19: symbols MAX5430BEKA+T to MAX5435LEZT+]

## MAX5430BEKA+T
designator U?
Digitally Programmable Precision Voltage Divider for PGAs with 2-Wire Parallel Control Interface, Volatile, 4 Steps, -40 to 85 degC, 8-pin SOT (K8+5), Pb-Free, Tape and Reel; PartNumber: MAX5430BEKA+T; DatasheetVersion: Rev. 2; PackageVersion: Rev. J, 10/2009; PackageReference: K8+5; PackageDescription: 8-Pin Small-Outline Transistor Package (K8+5), Body 2.9 x 1.625 mm, Pitch 0.65 mm; Supplier 1: Digi-Key; Supplier Part Number 1: MAX5430BEKA+TTR-ND; Supplier 2: Digi-Key; Supplier Part Number 2: MAX5430BEKA+TCT-ND; Supplier 3: Digi-Key; Supplier Part Number 3: MAX5430BEKA+TDKR-ND; Supplier 4: Mouser; Supplier Part Number 4: 700-MAX5430BEKAT; Applications: Precision Voltage Divider; Control Interface: 2-Wire Parallel; Mounting Technology: Surface Mount; Code_JEDEC: MO178; ComponentLink1Description: Manufacturer URL; ComponentLink1URL: http://www.maximintegrated.com/; ComponentLink2Description: Datasheet; ComponentLink2URL: http://datasheets.maximintegrated.com/en/ds/MAX5430-MAX5431.pdf; ComponentLink3Description: Package Specification; ComponentLink3URL: http://pdfserv.maximintegrated.com/package_dwgs/21-0078.PDF
footprint MAXM-K8+5_V (SOT23, 8-Leads, Body 2.9x1.625mm, Pitch 0.65mm)
pins: 1 D0 (in) "First Bit Digital Input (LSB)", 2 D1 (in) "Second Bit Digital Input (MSB)", 3 W "Wiper Terminal of Resistive-Divider", 4 VSS (power) "Negative Power Supply", 5 L "Low Terminal of Resistive-Divider", 6 H "High Terminal of Resistive-Divider", 7 GND (power) "Ground", 8 VDD (power) "Positive Power Supply"

## MAX5430BEKA-T
designator U?
Digitally Programmable Precision Voltage Divider for PGAs with 2-Wire Parallel Control Interface, Volatile, 4 Steps, -40 to 85 degC, 8-pin SOT (K8-5), Tape and Reel; PartNumber: MAX5430BEKA-T; DatasheetVersion: Rev. 2; PackageVersion: Rev. J, 10/2009; PackageReference: K8-5; PackageDescription: 8-Pin Small-Outline Transistor Package (K8-5), Body 2.9 x1.625 mm, Pitch 0.65 mm; Supplier 1: Mouser; Supplier Part Number 1: N/A; Applications: Precision Voltage Divider; Control Interface: 2-Wire Parallel; Mounting Technology: Surface Mount; Code_JEDEC: MO178; ComponentLink1Description: Manufacturer URL; ComponentLink1URL: http://www.maximintegrated.com/; ComponentLink2Description: Datasheet; ComponentLink2URL: http://datasheets.maximintegrated.com/en/ds/MAX5430-MAX5431.pdf; ComponentLink3Description: Package Specification; ComponentLink3URL: http://pdfserv.maximintegrated.com/package_dwgs/21-0078.PDF
footprint MAXM-K8-5_V (SOT23, 8-Leads, Body 2.9x1.625mm, Pitch 0.65mm)
pins: 1 D0 (in) "First Bit Digital Input (LSB)", 2 D1 (in) "Second Bit Digital Input (MSB)", 3 W "Wiper Terminal of Resistive-Divider", 4 VSS (power) "Negative Power Supply", 5 L "Low Terminal of Resistive-Divider", 6 H "High Terminal of Resistive-Divider", 7 GND (power) "Ground", 8 VDD (power) "Positive Power Supply"

## MAX5430CEKA+
designator U?
Digitally Programmable Precision Voltage Divider for PGAs with 2-Wire Parallel Control Interface, Volatile, 4 Steps, -40 to 85 degC, 8-pin SOT (K8+5), Pb-Free; PartNumber: MAX5430CEKA+; DatasheetVersion: Rev. 2; PackageVersion: Rev. J, 10/2009; PackageReference: K8+5; PackageDescription: 8-Pin Small-Outline Transistor Package (K8+5), Body 2.9 x 1.625 mm, Pitch 0.65 mm; Supplier 1: Mouser; Supplier Part Number 1: N/A; Applications: Precision Voltage Divider; Control Interface: 2-Wire Parallel; Mounting Technology: Surface Mount; Code_JEDEC: MO178; ComponentLink1Description: Manufacturer URL; ComponentLink1URL: http://www.maximintegrated.com/; ComponentLink2Description: Datasheet; ComponentLink2URL: http://datasheets.maximintegrated.com/en/ds/MAX5430-MAX5431.pdf; ComponentLink3Description: Package Specification; ComponentLink3URL: http://pdfserv.maximintegrated.com/package_dwgs/21-0078.PDF
footprint MAXM-K8+5_V (SOT23, 8-Leads, Body 2.9x1.625mm, Pitch 0.65mm)
pins: 1 D0 (in) "First Bit Digital Input (LSB)", 2 D1 (in) "Second Bit Digital Input (MSB)", 3 W "Wiper Terminal of Resistive-Divider", 4 VSS (power) "Negative Power Supply", 5 L "Low Terminal of Resistive-Divider", 6 H "High Terminal of Resistive-Divider", 7 GND (power) "Ground", 8 VDD (power) "Positive Power Supply"

## MAX5430CEKA+T
designator U?
Digitally Programmable Precision Voltage Divider for PGAs with 2-Wire Parallel Control Interface, Volatile, 4 Steps, -40 to 85 degC, 8-pin SOT (K8+5), Pb-Free, Tape and Reel; PartNumber: MAX5430CEKA+T; DatasheetVersion: Rev. 2; PackageVersion: Rev. J, 10/2009; PackageReference: K8+5; PackageDescription: 8-Pin Small-Outline Transistor Package (K8+5), Body 2.9 x 1.625 mm, Pitch 0.65 mm; Supplier 1: Digi-Key; Supplier Part Number 1: MAX5430CEKA+T-ND; Supplier 2: Mouser; Supplier Part Number 2: 700-MAX5430CEKAT; Applications: Precision Voltage Divider; Control Interface: 2-Wire Parallel; Mounting Technology: Surface Mount; Code_JEDEC: MO178; ComponentLink1Description: Manufacturer URL; ComponentLink1URL: http://www.maximintegrated.com/; ComponentLink2Description: Datasheet; ComponentLink2URL: http://datasheets.maximintegrated.com/en/ds/MAX5430-MAX5431.pdf; ComponentLink3Description: Package Specification; ComponentLink3URL: http://pdfserv.maximintegrated.com/package_dwgs/21-0078.PDF
footprint MAXM-K8+5_V (SOT23, 8-Leads, Body 2.9x1.625mm, Pitch 0.65mm)
pins: 1 D0 (in) "First Bit Digital Input (LSB)", 2 D1 (in) "Second Bit Digital Input (MSB)", 3 W "Wiper Terminal of Resistive-Divider", 4 VSS (power) "Negative Power Supply", 5 L "Low Terminal of Resistive-Divider", 6 H "High Terminal of Resistive-Divider", 7 GND (power) "Ground", 8 VDD (power) "Positive Power Supply"

## MAX5430CEKA-T
designator U?
Digitally Programmable Precision Voltage Divider for PGAs with 2-Wire Parallel Control Interface, Volatile, 4 Steps, -40 to 85 degC, 8-pin SOT (K8-5), Tape and Reel; PartNumber: MAX5430CEKA-T; DatasheetVersion: Rev. 2; PackageVersion: Rev. J, 10/2009; PackageReference: K8-5; PackageDescription: 8-Pin Small-Outline Transistor Package (K8-5), Body 2.9 x1.625 mm, Pitch 0.65 mm; Supplier 1: Mouser; Supplier Part Number 1: N/A; Applications: Precision Voltage Divider; Control Interface: 2-Wire Parallel; Mounting Technology: Surface Mount; Code_JEDEC: MO178; ComponentLink1Description: Manufacturer URL; ComponentLink1URL: http://www.maximintegrated.com/; ComponentLink2Description: Datasheet; ComponentLink2URL: http://datasheets.maximintegrated.com/en/ds/MAX5430-MAX5431.pdf; ComponentLink3Description: Package Specification; ComponentLink3URL: http://pdfserv.maximintegrated.com/package_dwgs/21-0078.PDF
footprint MAXM-K8-5_V (SOT23, 8-Leads, Body 2.9x1.625mm, Pitch 0.65mm)
pins: 1 D0 (in) "First Bit Digital Input (LSB)", 2 D1 (in) "Second Bit Digital Input (MSB)", 3 W "Wiper Terminal of Resistive-Divider", 4 VSS (power) "Negative Power Supply", 5 L "Low Terminal of Resistive-Divider", 6 H "High Terminal of Resistive-Divider", 7 GND (power) "Ground", 8 VDD (power) "Positive Power Supply"

## MAX5431AEUB
designator U?
+/-15 V Digitally Programmable Precision Voltage Divider for PGAs with 2-Wire Parallel Control Interface, Volatile, 4 Steps, -40 to 85 degC, 10-pin uMAX (U10-2); PartNumber: MAX5431AEUB; DatasheetVersion: Rev. 2; PackageVersion: Rev. L, 07/2008; PackageReference: U10-2; PackageDescription: 10-Pin Micro-MAX, Thin Shrink Small-Outline (U10-2), Body 3 x 3 mm, Pitch 0.5 mm; Supplier 1: Mouser; Supplier Part Number 1: N/A; Applications: Precision Voltage Divider; Control Interface: 2-Wire Parallel; Features: Op-Amp Input Bias Current Comp. Resistor; Mounting Technology: Surface Mount; Code_JEDEC: MO-187; ComponentLink1Description: Manufacturer URL; ComponentLink1URL: http://www.maximintegrated.com/; ComponentLink2Description: Datasheet; ComponentLink2URL: http://datasheets.maximintegrated.com/en/ds/MAX5430-MAX5431.pdf; ComponentLink3Description: Package Specification; ComponentLink3URL: http://pdfserv.maximintegrated.com/package_dwgs/21-0061.PDF
footprint MAXM-U10-2_N (SOP, 10-Leads, Body 3x3mm, Pitch 0.5mm, IPC Medium Density)
footprint MAXM-U10-2_L (SOP, 10-Leads, Body 3x3mm, Pitch 0.5mm, IPC High Density)
footprint MAXM-U10-2_M (SOP, 10-Leads, Body 3x3mm, Pitch 0.5mm, IPC Low Density)
pins: 1 VDD (power) "Positive Power Supply", 2 MATCH_H "Matching Resistor High Terminal", 3 GND (power) "Ground", 4 H "High Terminal of Resistive-Divider", 5 L "Low Terminal of Resistive-Divider", 6 MATCH_L "Matching Resistor Low Terminal", 7 VSS (power) "Negative Power Supply", 8 W "Wiper Terminal of Resistive-Divider", 9 D1 (in) "Second Bit Digital Input (MSB)", 10 D0 (in) "First Bit Digital Input (LSB)"

## MAX5431AEUB+
designator U?
+/-15 V Digitally Programmable Precision Voltage Divider for PGAs with 2-Wire Parallel Control Interface, Volatile, 4 Steps, -40 to 85 degC, 10-pin uMAX (U10+2), Pb-Free,; PartNumber: MAX5431AEUB+; DatasheetVersion: Rev. 2; PackageVersion: Rev. L, 07/2008; PackageReference: U10+2; PackageDescription: 10-Pin Micro-MAX, Thin Shrink Small-Outline (U10+2), Body 3 x 3 mm, Pitch 0.5 mm; Supplier 1: Digi-Key; Supplier Part Number 1: MAX5431AEUB+-ND; Supplier 2: Mouser; Supplier Part Number 2: 700-MAX5431AEUB; Applications: Precision Voltage Divider; Control Interface: 2-Wire Parallel; Features: Op-Amp Input Bias Current Comp. Resistor; Mounting Technology: Surface Mount; Code_JEDEC: MO-187; ComponentLink1Description: Manufacturer URL; ComponentLink1URL: http://www.maximintegrated.com/; ComponentLink2Description: Datasheet; ComponentLink2URL: http://datasheets.maximintegrated.com/en/ds/MAX5430-MAX5431.pdf; ComponentLink3Description: Package Specification; ComponentLink3URL: http://pdfserv.maximintegrated.com/package_dwgs/21-0061.PDF
footprint MAXM-U10+2_N (SOP, 10-Leads, Body 3x3mm, Pitch 0.5mm, IPC Medium Density)
footprint MAXM-U10+2_L (SOP, 10-Leads, Body 3x3mm, Pitch 0.5mm, IPC High Density)
footprint MAXM-U10+2_M (SOP, 10-Leads, Body 3x3mm, Pitch 0.5mm, IPC Low Density)
pins: 1 VDD (power) "Positive Power Supply", 2 MATCH_H "Matching Resistor High Terminal", 3 GND (power) "Ground", 4 H "High Terminal of Resistive-Divider", 5 L "Low Terminal of Resistive-Divider", 6 MATCH_L "Matching Resistor Low Terminal", 7 VSS (power) "Negative Power Supply", 8 W "Wiper Terminal of Resistive-Divider", 9 D1 (in) "Second Bit Digital Input (MSB)", 10 D0 (in) "First Bit Digital Input (LSB)"

## MAX5431AEUB+T
designator U?
+/-15 V Digitally Programmable Precision Voltage Divider for PGAs with 2-Wire Parallel Control Interface, Volatile, 4 Steps, -40 to 85 degC, 10-pin uMAX (U10+2), Pb-Free, Tape and Reel; PartNumber: MAX5431AEUB+T; DatasheetVersion: Rev. 2; PackageVersion: Rev. L, 07/2008; PackageReference: U10+2; PackageDescription: 10-Pin Micro-MAX, Thin Shrink Small-Outline (U10+2), Body 3 x 3 mm, Pitch 0.5 mm; Supplier 1: Digi-Key; Supplier Part Number 1: MAX5431AEUB+T-ND; Supplier 2: Mouser; Supplier Part Number 2: 700-MAX5431AEUBT; Applications: Precision Voltage Divider; Control Interface: 2-Wire Parallel; Features: Op-Amp Input Bias Current Comp. Resistor; Mounting Technology: Surface Mount; Code_JEDEC: MO-187; ComponentLink1Description: Manufacturer URL; ComponentLink1URL: http://www.maximintegrated.com/; ComponentLink2Description: Datasheet; ComponentLink2URL: http://datasheets.maximintegrated.com/en/ds/MAX5430-MAX5431.pdf; ComponentLink3Description: Package Specification; ComponentLink3URL: http://pdfserv.maximintegrated.com/package_dwgs/21-0061.PDF
footprint MAXM-U10+2_N (SOP, 10-Leads, Body 3x3mm, Pitch 0.5mm, IPC Medium Density)
footprint MAXM-U10+2_L (SOP, 10-Leads, Body 3x3mm, Pitch 0.5mm, IPC High Density)
footprint MAXM-U10+2_M (SOP, 10-Leads, Body 3x3mm, Pitch 0.5mm, IPC Low Density)
pins: 1 VDD (power) "Positive Power Supply", 2 MATCH_H "Matching Resistor High Terminal", 3 GND (power) "Ground", 4 H "High Terminal of Resistive-Divider", 5 L "Low Terminal of Resistive-Divider", 6 MATCH_L "Matching Resistor Low Terminal", 7 VSS (power) "Negative Power Supply", 8 W "Wiper Terminal of Resistive-Divider", 9 D1 (in) "Second Bit Digital Input (MSB)", 10 D0 (in) "First Bit Digital Input (LSB)"